# EAGLE library part LAN8740A-EN-TR (library LAN8740A-EN-TR)
Small Footprint 3.3 V MII/RMII 10/100 Ethernet/Wake-On-LAN Transceiver - SQFN-32
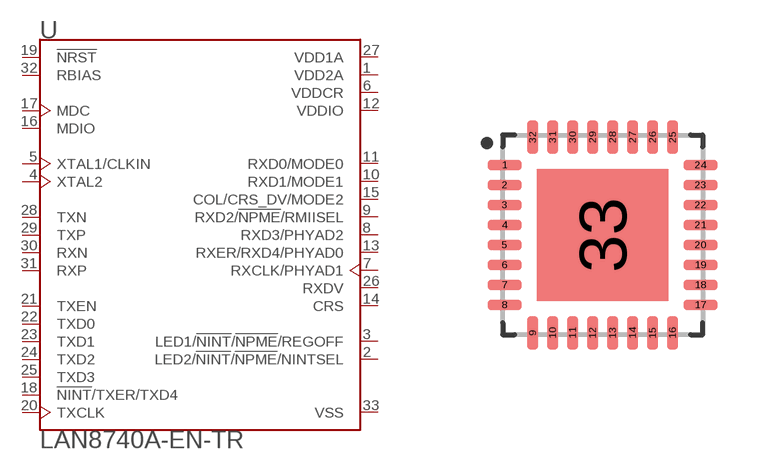
[diagram p0: symbol with the pads of QFN50P500X500X100-33N; footprint QFN50P500X500X100-33N]

Designator prefix U

## LAN8740A-EN-TR (Availability: Unavailable; Description: Small Footprint MII/RMII 10/100 Energy Efficient Ethernet Transceiver, 32 QFN 5x5x0.9mm T/R; MF: Microchip; MP: LAN8740A-EN-TR; Package: VFQFN-32 Microchip; Price: None)  [QFN50P500X500X100-33N]
1  VDD2A  pwr
2  LED2/!NINT!/!NPME!/NINTSEL
3  LED1/!NINT!/!NPME!/REGOFF
4  XTAL2  out
5  XTAL1/CLKIN  in
6  VDDCR  pwr
7  RXCLK/PHYAD1
8  RXD3/PHYAD2
9  RXD2/!NPME!/RMIISEL
10  RXD1/MODE1
11  RXD0/MODE0
12  VDDIO  pwr
13  RXER/RXD4/PHYAD0
14  CRS  out
15  COL/CRS_DV/MODE2
16  MDIO
17  MDC  in
18  !NINT!/TXER/TXD4
19  !NRST  in
20  TXCLK  out
21  TXEN  in
22  TXD0  in
23  TXD1  in
24  TXD2  in
25  TXD3  in
26  RXDV  out
27  VDD1A  pwr
28  TXN
29  TXP
30  RXN
31  RXP
32  RBIAS  in
33  VSS  pwr

## Footprint QFN50P500X500X100-33N (pad centres in mm)
smd 0.84 x 0.26: 1 -2.45,1.75; 2 -2.45,1.25; 3 -2.45,0.75; 4 -2.45,0.25; 5 -2.45,-0.25; 6 -2.45,-0.75; 7 -2.45,-1.25; 8 -2.45,-1.75; 17 2.45,-1.75; 18 2.45,-1.25; 19 2.45,-0.75; 20 2.45,-0.25; 21 2.45,0.25; 22 2.45,0.75; 23 2.45,1.25; 24 2.45,1.75
smd 0.26 x 0.84: 9 -1.75,-2.45; 10 -1.25,-2.45; 11 -0.75,-2.45; 12 -0.25,-2.45; 13 0.25,-2.45; 14 0.75,-2.45; 15 1.25,-2.45; 16 1.75,-2.45; 25 1.75,2.45; 26 1.25,2.45; 27 0.75,2.45; 28 0.25,2.45; 29 -0.25,2.45; 30 -0.75,2.45; 31 -1.25,2.45; 32 -1.75,2.45
smd 3.3 x 3.3: 33 0,0